# EAGLE library part CARAMBOLA-ARDUINO (library BaseApp)
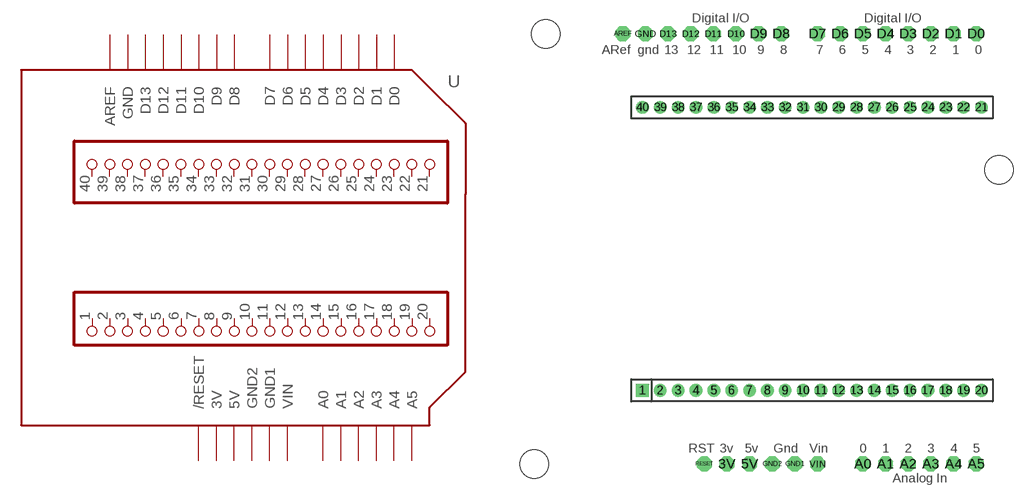
[diagram p44: symbol with the pads of CARAMBOLA-ARDUINO; footprint CARAMBOLA-ARDUINO]

Designator prefix -

## CARAMBOLA-ARDUINO  [CARAMBOLA-ARDUINO]
1  GND3  pas
2  ETH0_RD+  pas
3  ETH0_RD-  pas
3V  3V  pwr
4  ETH0_TD+  pas
5  ETH0_TD-  pas
5V  5V  pwr
6  GND  pas
7  ETH1_RD+  pas
8  ETH1_RD-  pas
9  ETH1_TD+  pas
10  ETH1_TD-  pas
11  2VD  pas
12  GND  pas
13  SPI_EN  pas
14  SPI_CLK  pas
15  SPI_DOUT  pas
16  SPI_DIN  pas
17  RESET  pas
18  WLAN_LED  pas
19  ETH1_LED  pas
20  ETH0_LED  pas
21  5V1  pas
22  3.3V  pas
23  3.3V  pas
24  GND  pas
25  RIN  pas
26  DCD  pas
27  DTR  pas
28  DSR  pas
29  RTS  pas
30  CTS  pas
31  TXD  pas
32  RXD  pas
33  I2C_SCLK  pas
34  I2C_SD  pas
35  TXD2  pas
36  RXD2  pas
37  GND  pas
38  UDP  pas
39  UDM  pas
40  UPHY  pas
A0  A0
A1  A1
A2  A2
A3  A3
A4  A4
A5  A5
AREF  AREF
D0  D0
D1  D1
D2  D2
D3  D3
D4  D4
D5  D5
D6  D6
D7  D7
D8  D8
D9  D9
D10  D10
D11  D11
D12  D12
D13  D13
GND  GND  pwr
GND1  GND1  pwr
GND2  GND2  pwr
RESET  /RESET
VIN  VIN  pwr

## Footprint CARAMBOLA-ARDUINO (pad centres in mm)
drill 0.914 square: 1 -10.745,-17.145
drill 0.914: 2 -8.745,-17.145; 3 -6.745,-17.145; 4 -4.745,-17.145; 5 -2.745,-17.145; 6 -0.745,-17.145; 7 1.255,-17.145; 8 3.255,-17.145; 9 5.255,-17.145; 10 7.255,-17.145; 11 9.255,-17.145; 12 11.255,-17.145; 13 13.255,-17.145; 14 15.255,-17.145; 15 17.255,-17.145; 16 19.255,-17.145; 17 21.255,-17.145; 18 23.255,-17.145; 19 25.255,-17.145; 20 27.255,-17.145; 21 27.255,14.605; 22 25.255,14.605; 23 23.255,14.605; 24 21.255,14.605; 25 19.255,14.605; 26 17.255,14.605; 27 15.255,14.605; 28 13.255,14.605; 29 11.255,14.605; 30 9.255,14.605; 31 7.255,14.605; 32 5.255,14.605; 33 3.255,14.605; 34 1.255,14.605; 35 -0.745,14.605; 36 -2.745,14.605; 37 -4.745,14.605; 38 -6.745,14.605; 39 -8.745,14.605; 40 -10.745,14.605
drill 1 pad 1.676 octagon: 3V -1.27,-25.4; 5V 1.27,-25.4; A0 13.97,-25.4; A1 16.51,-25.4; A2 19.05,-25.4; A3 21.59,-25.4; A4 24.13,-25.4; A5 26.67,-25.4; AREF -12.954,22.86; D0 26.67,22.86; D1 24.13,22.86; D2 21.59,22.86; D3 19.05,22.86; D4 16.51,22.86; D5 13.97,22.86; D6 11.43,22.86; D7 8.89,22.86; D8 4.826,22.86; D9 2.286,22.86; D10 -0.254,22.86; D11 -2.794,22.86; D12 -5.334,22.86; D13 -7.874,22.86; GND -10.414,22.86; GND1 6.35,-25.4; GND2 3.81,-25.4; RESET -3.81,-25.4; VIN 8.89,-25.4
hole 3.2 at -21.59,22.86
hole 3.2 at 29.21,7.62
hole 3.2 at -22.86,-25.4